# Altium footprint library 9-Diodes.PcbLib: 8 footprints
Each footprint in its own frame and in the unit in brackets; x right, y up, seen from the top. Pads: shape width x height; smd on the part's side, far side on the other; paste and mask are expansions set on the pad; w line width, h text height; cw(c..) or ccw(c..) is an arc to the next point about the centre after c.
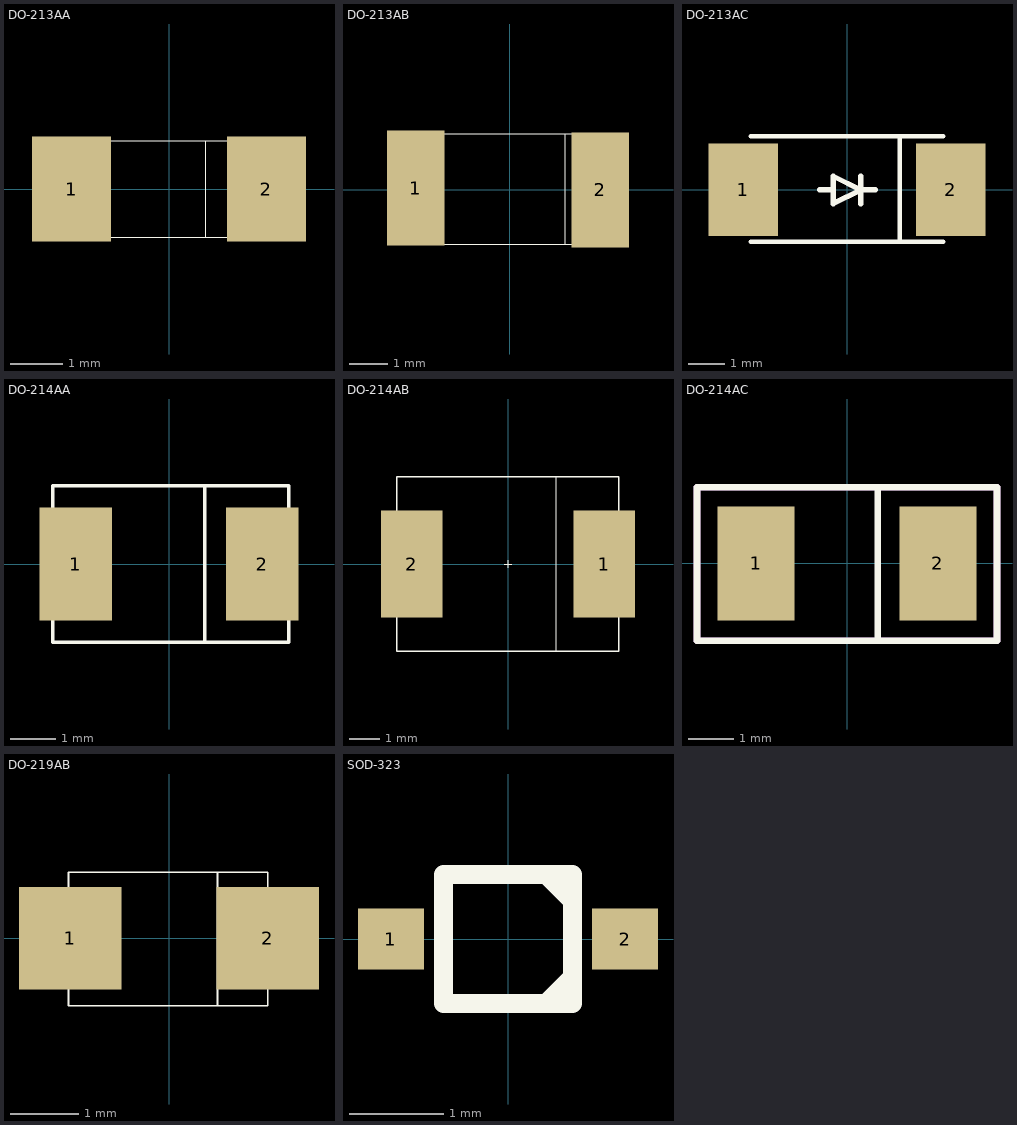
[diagram p0: the footprints below, top view; thin cyan lines are the x and y axes]

## DO-213AA [mm]
height 5.6
pads (2):
  rect 1.5x2 smd mask+0.051: 1(-1.855,0) 2(1.855,0)
Top Overlay:
  lines w0.005: 0.699,-0.914 0.699,0.914 ; -1.88,-0.914 1.829,-0.914 1.829,0.914 -1.88,0.914 -1.88,-0.914
3D body "do-213aa.stp": height 1.64, standoff -0.04, extent -1.775,-0.814 1.724,0.863
3D body "p200-150.stp": height 0.02, standoff 0, extent 1.143,-1 2.643,1
3D body "p200-150.stp": height 0.02, standoff 0, extent -2.567,-1 -1.067,1

## DO-213AB [mm]
height 5.6
pads (2):
  rect 1.5x3 smd mask+0.051: 1(-2.464,0.051) 2(2.362,0)
Top Overlay:
  lines w0.005: 1.448,-1.422 1.448,1.473 ; -2.642,-1.422 2.642,-1.422 2.642,1.473 -2.642,1.473 -2.642,-1.422
3D body "p300-150.stp": height 0.02, standoff 0, extent 1.548,-1.551 3.048,1.449
3D body "p300-150.stp": height 0.02, standoff 0, extent -3.214,-1.449 -1.714,1.551
3D body "do-213ab.stp": height 2.76, standoff -0.05, extent -2.6,-1.385 2.6,1.422

## DO-213AC [mm]
height 5.6
pads (2):
  rect 1.9x2.54 smd mask+0.051: 1(-2.85,0) 2(2.85,0)
Top Overlay:
  lines w0.127: -2.642,-1.422 2.642,-1.422 ; -2.642,1.473 2.642,1.473 ; 1.448,-1.422 1.448,1.473
  lines w0.15: -0.75,0 -0.375,0 ; 0.375,-0.375 0.375,0.375 ; 0.775,0 0.375,0 ; 0.375,0 -0.375,0.375 -0.375,-0.375 0.375,0
3D body "do213acpad.stp": height 0.01, standoff 0, extent 1.895,-1.27 3.795,1.27
3D body "do213acpad.stp": height 0.01, standoff 0, extent -3.795,-1.27 -1.895,1.27
3D body "sma_do-214ac.stp": height 2, standoff 0, extent -2.199,-1.145 2.199,1.145

## DO-214AA [mm]
height 5.6
pads (2):
  rect 1.6x2.5 smd mask+0.051: 1(-2.06,0) 2(2.06,0)
Top Overlay:
  lines w0.076: 0.787,-1.727 0.787,1.727 ; -2.565,-1.727 -2.565,1.727 2.642,1.727 2.642,-1.727 -2.565,-1.727
3D body "smb_do-214aa.stp": height 2, standoff 0, extent -2.489,-1.651 2.545,1.649
3D body "p250-160.stp": height 0.02, standoff 0, extent -2.87,-1.25 -1.27,1.25
3D body "p250-160.stp": height 0.02, standoff 0, extent 1.27,-1.25 2.87,1.25

## DO-214AB [mm]
height 5.6
pads (2):
  rect 2x3.5 smd mask+0.051: 1(3.14,0) 2(-3.14,0)
Top Overlay:
  lines w0.005: -0.127,0 0.127,0 ; 0,-0.127 0,0.127
  lines w0.025: 1.577,-2.809 1.577,2.819
  lines w0.051: -3.632,-2.845 -3.632,2.845 3.607,2.845 3.607,-2.845 -3.632,-2.845
3D body "p350-250.stp": height 0.02, standoff 0, extent 2.175,-1.75 4.175,1.75
3D body "p350-250.stp": height 0.02, standoff 0, extent -4.175,-1.75 -2.175,1.75
3D body "smc_do-214ab.stp": height 2, standoff 0, extent -3.558,-2.795 3.556,2.795

## DO-214AC [mm]
height 5.6
pads (2):
  rect 1.7x2.5 smd: 1(-2,0) 2(2,0)
Top Overlay:
  lines w0.15: 0.675,-1.7 0.675,1.65 ; -3.3,-1.7 -3.3,1.675 3.3,1.675 3.3,-1.7 -3.3,-1.7
Mechanical 14:
  lines w0.15: -3.3,-1.7 -3.3,1.675 3.3,1.675 3.3,-1.7 -3.3,-1.7
Mechanical 15:
  lines w0.15: -3.3,-1.7 -3.3,1.675 3.3,1.675 3.3,-1.7 -3.3,-1.7
3D body "do214ac.stp": height 1.9, standoff 0.03, extent -2.485,-1.2 2.485,1.2
3D body "do214acpad.stp": height 0.01, standoff 0.01, extent 1.15,-1.25 2.85,1.25
3D body "do214acpad.stp": height 0.01, standoff 0.01, extent -2.85,-1.25 -1.15,1.25

## DO-219AB [mm]
height 5.6
pads (2):
  rect 1.5x1.5 smd mask+0.051: 1(-1.45,0) 2(1.45,0)
Top Overlay:
  lines w0.025: 0.711,-0.991 0.711,0.965 ; -1.473,-0.991 1.448,-0.991 1.448,0.965 -1.473,0.965 -1.473,-0.991
3D body "p150-150.stp": height 0.02, standoff 0, extent 0.7,-0.75 2.2,0.75
3D body "p150-150.stp": height 0.02, standoff 0, extent -2.2,-0.75 -0.7,0.75
3D body "do-219ab.stp": height 1.08, standoff 0, extent -1.981,-0.965 1.919,0.935

## SOD-323 [mm]
height 1.35
pads (2):
  rect 0.7x0.65 smd: 1(-1.245,0) 2(1.245,0)
Top Overlay:
  lines w0.203: 0.406,-0.686 0.686,-0.406 ; 0.406,0.686 0.686,0.406 ; -0.686,-0.686 0.686,-0.686 0.686,0.686 -0.686,0.686 -0.686,-0.686
3D body "0_65-0_4.stp": height 0.01, standoff 0, extent -1.575,-0.325 -1.175,0.325
3D body "0_65-0_4.stp": height 0.01, standoff 0, extent 1.175,-0.325 1.575,0.325
3D body "sod-323.stp": height 1.11, standoff -0.07, extent -1.375,-0.675 1.375,0.675